# Altium footprint library PcbLib1.PcbLib: 11 footprints
Each footprint in its own frame and in the unit in brackets; x right, y up, seen from the top. Pads: shape width x height; smd on the part's side, far side on the other; paste and mask are expansions set on the pad; w line width, h text height; cw(c..) or ccw(c..) is an arc to the next point about the centre after c.
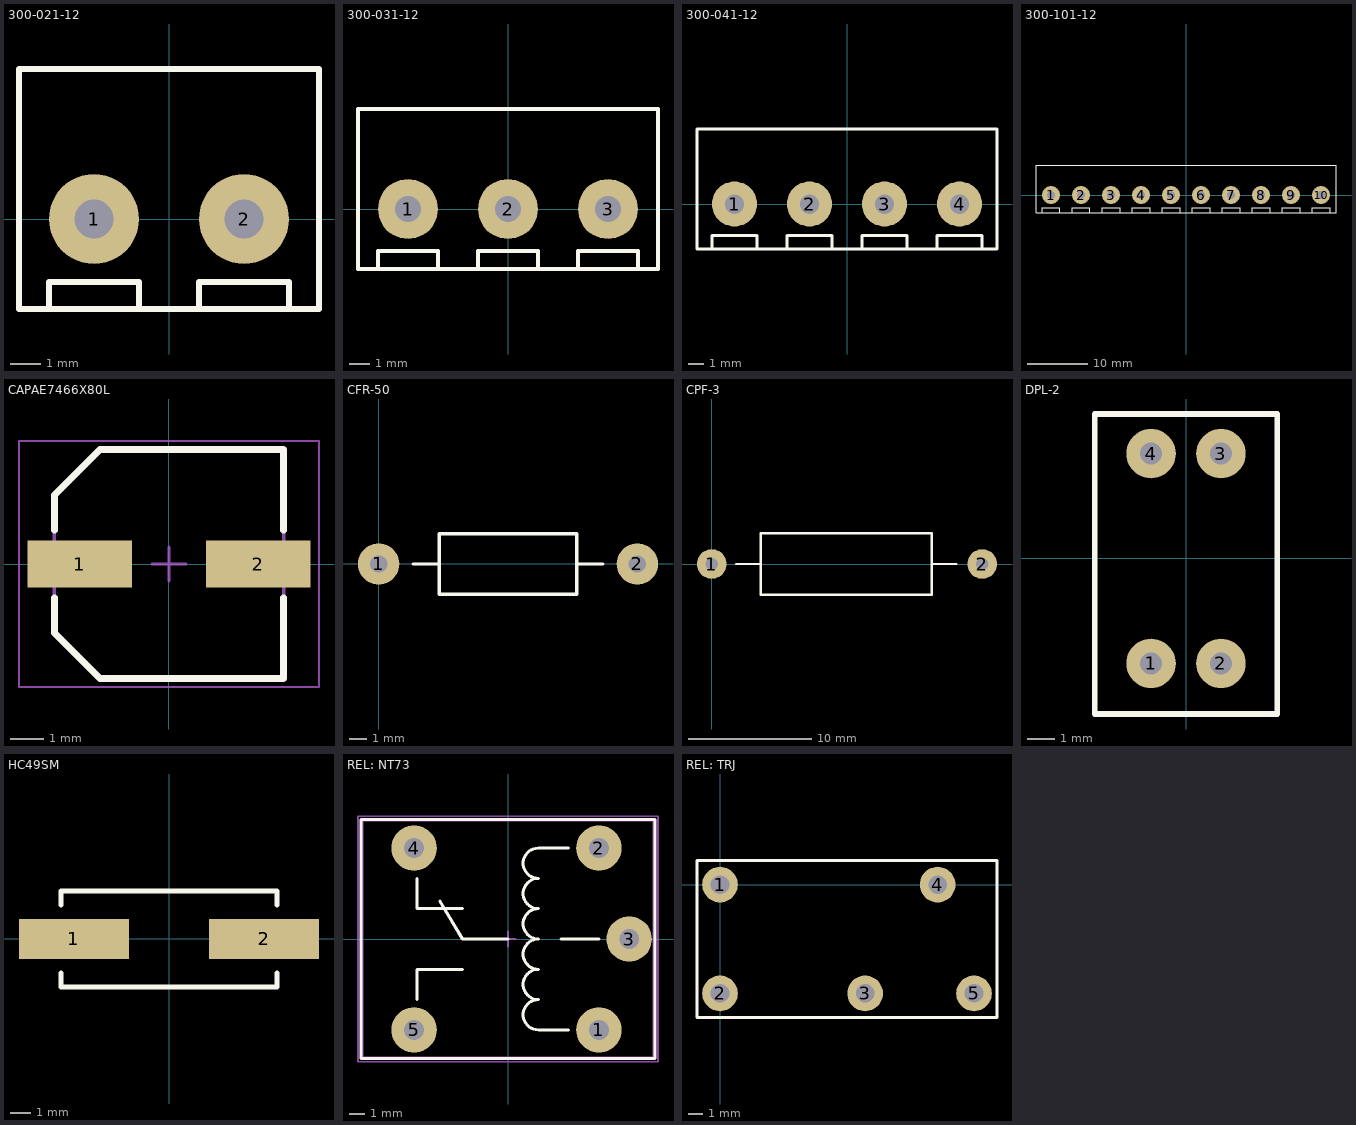
[diagram p0: the footprints below, top view; thin cyan lines are the x and y axes]

## 300-021-12 [mm]
height 12.5
pads (2):
  round 3 hole 1.3: 1(-2.5,0) 2(2.5,0)
Top Overlay:
  lines w0.2: -4,-3 -4,-2.1 -1,-2.1 -1,-3 ; 1,-3 1,-2.1 4,-2.1 4,-3 ; -5,-3 -5,5 5,5 5,-3 -5,-3

## 300-031-12 [mm]
height 12.5
pads (3):
  round 3 hole 1.3: 1(-5,0) 2(0,0) 3(5,0)
Top Overlay:
  lines w0.2: -6.5,-3 -6.5,-2.1 -3.5,-2.1 -3.5,-3 ; -1.5,-3 -1.5,-2.1 1.5,-2.1 1.5,-3 ; 3.5,-3 3.5,-2.1 6.5,-2.1 6.5,-3 ; -7.5,-3 -7.5,5 7.5,5 7.5,-3 -7.5,-3

## 300-041-12 [mm]
height 12.5
pads (4):
  round 3 hole 1.3: 1(-7.5,0) 2(-2.5,0) 3(2.5,0) 4(7.5,0)
Top Overlay:
  lines w0.2: -9,-3 -9,-2.1 -6,-2.1 -6,-3 ; -4,-3 -4,-2.1 -1,-2.1 -1,-3 ; 1,-3 1,-2.1 4,-2.1 4,-3 ; 6,-3 6,-2.1 9,-2.1 9,-3 ; -10,-3 -10,5 10,5 10,-3 -10,-3

## 300-101-12 [mm]
height 12.5
pads (10):
  round 3 hole 1.3: 1(-22.5,0) 2(-17.5,0) 3(-12.5,0) 4(-7.5,0) 5(-2.5,0) 6(2.5,0) 7(7.5,0) 8(12.5,0) 9(17.5,0) 10(22.5,0)
Top Overlay:
  lines w0.2: -24,-3 -24,-2.1 -21,-2.1 -21,-3 ; -19,-3 -19,-2.1 -16,-2.1 -16,-3 ; -14,-3 -14,-2.1 -11,-2.1 -11,-3 ; -9,-3 -9,-2.1 -6,-2.1 -6,-3 ; -4,-3 -4,-2.1 -1,-2.1 -1,-3 ; 1,-3 1,-2.1 4,-2.1 4,-3 ; 6,-3 6,-2.1 9,-2.1 9,-3 ; 11,-3 11,-2.1 14,-2.1 14,-3 ; 16,-3 16,-2.1 19,-2.1 19,-3 ; 21,-3 21,-2.1 24,-2.1 24,-3 ; -25,-3 25,-3 25,5 -25,5 -25,-3

## CAPAE7466X80L [mm] "Aluminum Electrolytic Capacitor, Body 6,60x6,60x8,00mm, IPC High Density"
height 8
pads (2):
  rect 3.1x1.4 smd: 1(-2.65,0) 2(2.65,0)
Top Overlay:
  lines w0.2: -3.4,-1 -3.4,-2.05 -2.05,-3.4 3.4,-3.4 3.4,-1 ; -3.4,1 -3.4,2.05 -2.05,3.4 3.4,3.4 3.4,1
Mechanical 13:
  lines w0.1: -3.4,-2.05 -2.05,-3.4 3.4,-3.4 3.4,3.4 -2.05,3.4 -3.4,2.05 -3.4,-2.05
Mechanical 15:
  lines w0.05: -4.45,-3.65 -4.45,3.65 4.45,3.65 4.45,-3.65 -4.45,-3.65
  lines w0.1: -0.5,0 0.5,0 ; 0,-0.5 0,0.5
3D body "CAPAE7466X80L.step": height 8, standoff 0, extent -3.7,-3.4 3.7,3.4

## CFR-50 [mm]
pads (2):
  round 2.4 hole 1: 1(0,0) 2(15,0)
Top Overlay:
  lines w0.2: 2,0 3.5,0 ; 11.5,0 13,0 ; 3.5,-1.75 11.5,-1.75 11.5,1.75 3.5,1.75 3.5,-1.75

## CPF-3 [mm]
height 4.6
pads (2):
  round 2.4 hole 1: 1(0,0) 2(22,0)
Top Overlay:
  lines w0.2: 2,0 4,0 ; 17.9,0 19.9,0 ; 4,-2.5 4,2.5 17.9,2.5 17.9,-2.5 4,-2.5

## DPL-2 [mm]
height 10.3
pads (4):
  round 1.8 hole 0.8: 1(-1.27,-3.81) 2(1.27,-3.81) 3(1.27,3.81) 4(-1.27,3.81)
Top Overlay:
  lines w0.2: -3.32,-5.65 3.32,-5.65 3.32,5.25 -3.32,5.25 -3.32,-5.65

## HC49SM [mm]
pads (2):
  rect 5.5x2 smd: 1(-4.75,0) 2(4.75,0)
Top Overlay:
  lines w0.254: -5.4,-1.7 -5.4,-2.4 5.4,-2.4 5.4,-1.7 ; -5.4,1.7 -5.4,2.4 5.4,2.4 5.4,1.7

## REL: NT73 [mm]
pads (5):
  round 3 hole 1.3: 1(6,-6) 2(6,6) 3(8,0) 4(-6.2,6) 5(-6.2,-6)
Top Overlay:
  lines w0.2: -6,-4 -6,-2 -3,-2 ; -6,4 -6,2 -3,2 ; -4.5,2.5 -3,0 0,0 ; 3.5,0 6,0 ; 4,-6 2,-6 cw(c2,-5) 2,-4 cw(c2,-3) 2,-2 cw(c2,-1) 2,0 cw(c2,1) 2,2 cw(c2,3) 2,4 cw(c2,5) 2,6 4,6 ; -9.7,-7.9 9.7,-7.9 9.7,7.9 -9.7,7.9 -9.7,-7.9
Mechanical 1:
  lines w0.1: -6,-4 -6,-2 -3,-2 ; -6,4 -6,2 -3,2 ; -4.5,2.5 -3,0 0,0 ; 3.5,0 6,0 ; 4,-6 2,-6 cw(c2,-5) 2,-4 cw(c2,-3) 2,-2 cw(c2,-1) 2,0 cw(c2,1) 2,2 cw(c2,3) 2,4 cw(c2,5) 2,6 4,6 ; -9.6,-7.8 -9.6,7.8 9.6,7.8 9.6,-7.8 -9.6,-7.8
Mechanical 15:
  lines w0.1: -0.5,0 0.5,0 ; 0,-0.5 0,0.5 ; -9.9,-8.1 9.9,-8.1 9.9,8.1 -9.9,8.1 -9.9,-8.1
3D body "6666.STEP": height 15.8, standoff -3, extent -9.6,-7.8 9.6,7.8

## REL: TRJ [mm]
pads (6):
  round 2.5 hole 1.3: 1(0,0) 2(0,-7.62) 3(10.16,-7.62) 4(15.24,0) 5(17.78,-7.62)
  round 0.5 on Mech1: ""(-0.5,-8.12)
Top Overlay:
  lines w0.2: -1.61,-9.31 19.39,-9.31 19.39,1.69 -1.61,1.69 -1.61,-9.31